# Altium schematic symbol library Inductor_0201.SchLib: 1 symbol
Pins are listed as number, name and electrical type; pins without a type are passive.

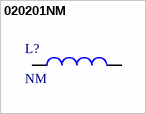
[diagram p0: symbol 020201NM]

## 020201NM
designator L?, comment NM
Inductor SMD, size 0201, NM; Inductance: N/A; Tolerance: N/A; Packaging: Tape and Reel; Supplier 1 URL: N/A; Supplier 2 URL: N/A; Supplier 3 URL: N/A; Maximum DC Current: N/A; Maximum DC Resistance: N/A; Saturation Current: N/A; ComponentLink1Description: Datasheet; ComponentLink1URL: N/A; Value: NM; Manufacturer: N/A; Manufacturer Part Number: N/A; Mount: SMD/SMT; Operating Temperature Max: + 125 C; Operating Temperature Min: - 55 C; Package / Case: 0201; Supplier 1: Mouser; Supplier 1 Part Number: N/A; Supplier 2: Digi-Key; Supplier 2 Part Number: N/A; Supplier 3: thegioiic; Supplier 3 Part Number: N/A; LCSC Part #: N/A
footprint 0201 (Chip Inductor, 2-Leads, Body 0.60x0.30mm, IPC Medium Density)
pins: 1, 2